# Altium integrated library ST Interface Transistor Driver.IntLib: 2 symbols
Pins are listed as number, name and electrical type; pins without a type are passive.

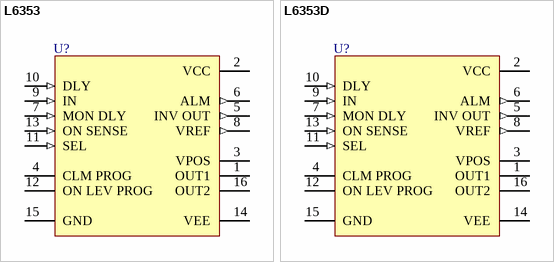
[diagram p0: symbols L6353 to L6353D]

## L6353
designator U?
Smart Driver For Power MOS &IGBT; Published: 8-Jun-2000; LatestRevisionDate: 06-Jun-2005; LatestRevisionNote: Stylized 3D Model Added.; DatasheetVersion: Nov-1996; PackageVersion: Apr-1996; PackageReference: DIP16; Publisher: Altium Limited; PackageDescription: DIP; 16 Leads; Row Spacing 7.62 mm; Pitch 2.54 mm; ComponentLink1Description: Manufacturer Link; ComponentLink1URL: http://www.st.com/
footprint DIP16 (DIP; 16 Leads; Row Spacing 7.62 mm; Pitch 2.54 mm)
3D model DIP16 (DIP; 16 Leads; Row Spacing 7.62 mm; Pitch 2.54 mm)
pins: 1 OUT1 (oe), 2 VCC (power), 3 VPOS (oc), 4 CLM PROG, 5 INV OUT (out), 6 ALM (out), 7 MON DLY (in), 8 VREF (out), 9 IN (in), 10 DLY (in), 11 SEL (in), 12 ON LEV PROG, 13 ON SENSE (in), 14 VEE (power), 15 GND (power), 16 OUT2 (oc)

## L6353D
designator U?
Smart Driver For Power MOS &IGBT; Published: 8-Jun-2000; LatestRevisionDate: 13-Apr-2006; LatestRevisionNote: IPC-7351 Footprint Added.; DatasheetVersion: Nov-1996; PackageVersion: May-1998; PackageReference: SO16; Publisher: Altium Limited; PackageDescription: 16-Pin Small Outline Integrated Circuit 1.27 mm Pitch; Code_IPC: SOIC127P600-16; ComponentLink1Description: Manufacturer Link; ComponentLink1URL: http://www.st.com/
footprint SO16_N (SOIC, 16-Leads, Body 9.9x3.9mm, Pitch 1.27mm, IPC Medium Density)
footprint SO16_L (SOIC, 16-Leads, Body 9.9x3.9mm, Pitch 1.27mm, IPC High Density)
footprint SO16_M (SOIC, 16-Leads, Body 9.9x3.9mm, Pitch 1.27mm, IPC Low Density)
3D model SO16 (16-Pin Small Outline Integrated Circuit 1.27 mm Pitch)
pins: 1 OUT1 (oe), 2 VCC (power), 3 VPOS (oc), 4 CLM PROG, 5 INV OUT (out), 6 ALM (out), 7 MON DLY (in), 8 VREF (out), 9 IN (in), 10 DLY (in), 11 SEL (in), 12 ON LEV PROG, 13 ON SENSE (in), 14 VEE (power), 15 GND (power), 16 OUT2 (oc)